# Altium footprint library 60312042114504.PcbLib: 1 footprints
Each footprint in its own frame and in the unit in brackets; x right, y up, seen from the top. Pads: shape width x height; smd on the part's side, far side on the other; paste and mask are expansions set on the pad; w line width, h text height; cw(c..) or ccw(c..) is an arc to the next point about the centre after c.
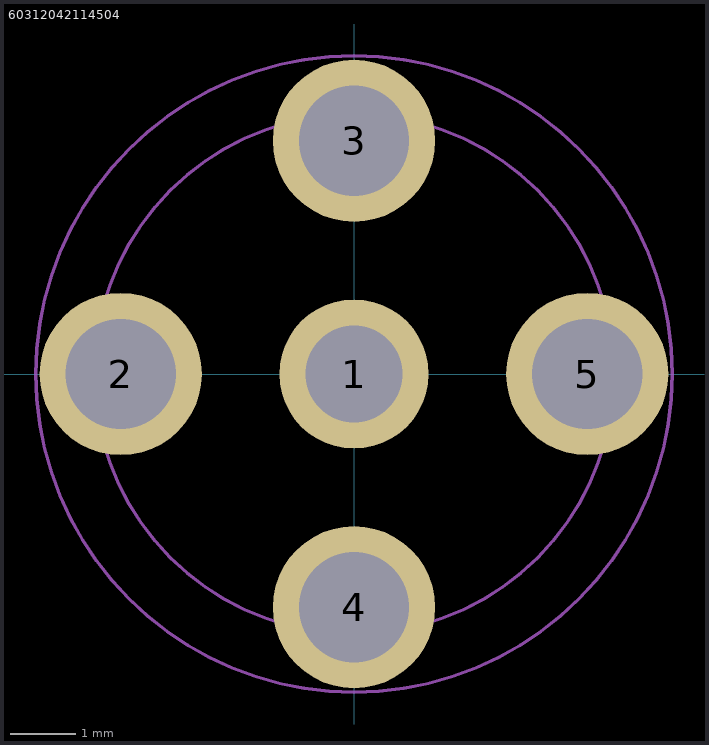
[diagram p0: the footprint, top view; thin cyan lines are the x and y axes]

## 60312042114504 [mm]
pads (5):
  round 2.3 hole 1.5 paste-1000 mask+0: 1(0,0)
  round 2.5 hole 1.7 paste-1000 mask+0: 2(-3.592,0) 3(0,3.592) 4(0,-3.592) 5(3.592,0)
Top Assembly:
  circle w0.05: c0,0 r4
Top Courtyard:
  circle w0.05: c0,0 r4.9
  lines w0.1: -0.5,0 0.5,0 ; 0,-0.5 0,0.5
3D body "Download_STP_60312042114504 (rev1) (2).step": height 20.83, standoff -3.94, extent -3.957,-3.96 3.957,3.96